# EAGLE library part TPS65185RGZR (library TPS65185RGZR)
Check availability <https://pricing.snapeda.com/parts/TPS65185RGZR/Texas%20Instruments/view-part?ref=eda>
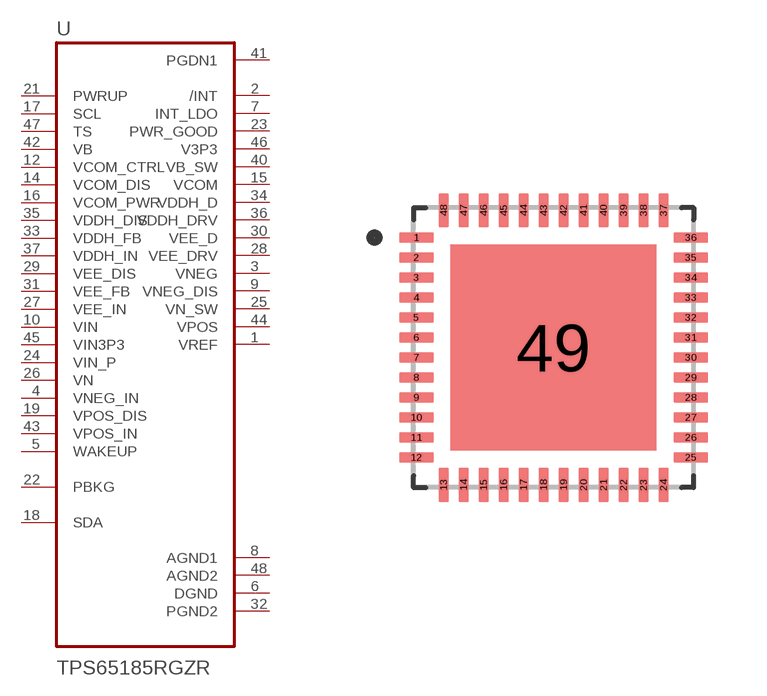
[diagram p0: symbol with the pads of QFN50P700X700X100-49N; footprint QFN50P700X700X100-49N]

Designator prefix U

## TPS65185RGZR (Availability: In Stock; Check_prices: https://www.snapeda.com/parts/TPS65185RGZR/Texas+Instruments/view-part/?ref=eda; Description: PMIC for E-Ink® Vizplex™ Enabled Electronic Paper Display w/ Active Discharge; MF: Texas Instruments; MP: TPS65185RGZR; Package: VQFN-48 Texas Instruments; Price: None; SnapEDA_Link: https://www.snapeda.com/parts/TPS65185RGZR/Texas+Instruments/view-part/?ref=snap)  [QFN50P700X700X100-49N]
1  VREF  out
2  /INT  out
3  VNEG  out
4  VNEG_IN  in
5  WAKEUP  in
6  DGND  pwr
7  INT_LDO  out
8  AGND1  pwr
9  VNEG_DIS  out
10  VIN  in
12  VCOM_CTRL  in
14  VCOM_DIS  in
15  VCOM  out
16  VCOM_PWR  in
17  SCL  in
18  SDA
19  VPOS_DIS  in
21  PWRUP  in
22  PBKG
23  PWR_GOOD  out
24  VIN_P  in
25  VN_SW  out
26  VN  in
27  VEE_IN  in
28  VEE_DRV  out
29  VEE_DIS  in
30  VEE_D  out
31  VEE_FB  in
32  PGND2  pwr
33  VDDH_FB  in
34  VDDH_D  out
35  VDDH_DIS  in
36  VDDH_DRV  out
37  VDDH_IN  in
40  VB_SW  out
41  PGDN1  pwr
42  VB  in
43  VPOS_IN  in
44  VPOS  out
45  VIN3P3  in
46  V3P3  out
47  TS  in
48  AGND2  pwr

## Footprint QFN50P700X700X100-49N (pad centres in mm)
smd 0.86 x 0.26: 1 -3.435,2.75; 2 -3.435,2.25; 3 -3.435,1.75; 4 -3.435,1.25; 5 -3.435,0.75; 6 -3.435,0.25; 7 -3.435,-0.25; 8 -3.435,-0.75; 9 -3.435,-1.25; 10 -3.435,-1.75; 11 -3.435,-2.25; 12 -3.435,-2.75; 25 3.435,-2.75; 26 3.435,-2.25; 27 3.435,-1.75; 28 3.435,-1.25; 29 3.435,-0.75; 30 3.435,-0.25; 31 3.435,0.25; 32 3.435,0.75; 33 3.435,1.25; 34 3.435,1.75; 35 3.435,2.25; 36 3.435,2.75
smd 0.26 x 0.86: 13 -2.75,-3.435; 14 -2.25,-3.435; 15 -1.75,-3.435; 16 -1.25,-3.435; 17 -0.75,-3.435; 18 -0.25,-3.435; 19 0.25,-3.435; 20 0.75,-3.435; 21 1.25,-3.435; 22 1.75,-3.435; 23 2.25,-3.435; 24 2.75,-3.435; 37 2.75,3.435; 38 2.25,3.435; 39 1.75,3.435; 40 1.25,3.435; 41 0.75,3.435; 42 0.25,3.435; 43 -0.25,3.435; 44 -0.75,3.435; 45 -1.25,3.435; 46 -1.75,3.435; 47 -2.25,3.435; 48 -2.75,3.435
smd 5.15 x 5.15: 49 0,0